# Altium schematic symbol library MOSFETS.SchLib: 15 symbols
Pins are listed as number, name and electrical type; pins without a type are passive.

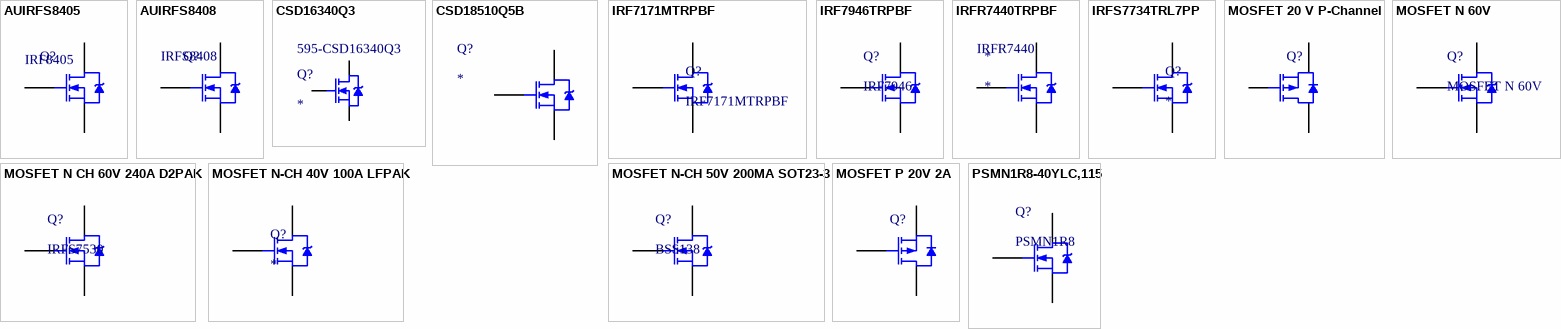
[diagram p0: symbols AUIRFS8405 to PSMN1R8-40YLC,115]

## AUIRFS8405
designator Q?  value IRF8405  (hidden comment: AUIRFS8405)
MOSFET Auto 40V N-Ch FET 1.9mOhm 193A; Manufacturer: International Rectifier; Configuration: Single; Forward Transconductance - Min: 100 S; Transistor Polarity: N-Channel; Channel Mode: Enhancement; Fall Time: 77 ns; Id - Continuous Drain Current: 120 A; Pd - Power Dissipation: 163 W; Qg - Gate Charge: 107 nC; Rds On - Drain-Source Resistance: 2.3 mOhms; Rise Time: 128 ns; Typical Turn-Off Delay Time: 55 ns; Vgs - Gate-Source Breakdown Voltage: 20 V; Vgs th - Gate-Source Threshold Voltage: 2.2 V to 3.9 V; Supplier 1: Mouser; Manufacturer Part Number: AUIRFS8405; RoHS: RoHS Compliant; Category: MOSFET; Stock 1: 148; Pricing 1: 1=3.55, 10=1.89, 100=1.66, 500=1.56, 1000=1.50, 2500=1.44, 5000=1.37, 10000=1.32 (AUD); Package / Case: D-PAK-3; Packaging: Tube; Brand: International Rectifier; Mounting Style: SMD/SMT; Maximum Operating Temperature: + 175 C; Minimum Operating Temperature: - 55 C; Standard Pack Qty: 50; Tradename: CoolIRFet; Vds - Drain-Source Breakdown Voltage: 40 V; RoHS - Mouser: Y; Minimum Order Quantity: 1; Reeling: False; ComponentLink1URL: http://www.mouser.com/ds/2/200/auirfs8405-246739.pdf; ComponentLink1Description: http://www.mouser.com/ds/2/200/auirfs8405-246739.pdf; Supplier Part Number 1: 942-AUIRFS8405
footprint D-PAK (D-PAK/TO-252-AA; 3 Leads (1 Cropped); Body 10.3 (inc. leads) x 6.7 mm (LxW max))
pins: 1 G, 2 D, 3 S

## AUIRFS8408
designator Q?  value IRFS8408  (hidden comment: AUIRFS8408)
MOSFET Auto 40V N-Ch FET 1.3mOhm 195A; Manufacturer: International Rectifier; Configuration: Single; Forward Transconductance - Min: 211 S; Transistor Polarity: N-Channel; Channel Mode: Enhancement; Fall Time: 119 ns; Pd - Power Dissipation: 294 W; Qg - Gate Charge: 210 nC; Rds On - Drain-Source Resistance: 1.6 mOhms; Rise Time: 202 ns; Typical Turn-Off Delay Time: 108 ns; Vgs - Gate-Source Breakdown Voltage: 20 V; Vgs th - Gate-Source Threshold Voltage: 2.2 V to 3.9 V; Supplier 1: Mouser; Manufacturer Part Number: AUIRFS8408; RoHS: RoHS Compliant; Category: MOSFET; Stock 1: 495; Pricing 1: 1=4.92, 10=2.82, 100=2.67, 250=2.49, 500=2.39, 1000=2.30, 2500=2.18, 5000=2.11 (AUD); Package / Case: DPAK-3; Packaging: Tube; Brand: International Rectifier; Mounting Style: SMD/SMT; Id - Continuous Drain Current: 195 A; Maximum Operating Temperature: + 175 C; Minimum Operating Temperature: - 55 C; Standard Pack Qty: 50; Tradename: CoolIRFet; Vds - Drain-Source Breakdown Voltage: 40 V; RoHS - Mouser: Y; Minimum Order Quantity: 1; Reeling: False; ComponentLink1URL: http://www.mouser.com/ds/2/200/auirfs8408-246755.pdf; ComponentLink1Description: http://www.mouser.com/ds/2/200/auirfs8408-246755.pdf; Supplier Part Number 1: 942-AUIRFS8408
footprint D-PAK (D-PAK/TO-252-AA; 3 Leads (1 Cropped); Body 10.3 (inc. leads) x 6.7 mm (LxW max))
footprint D2PAK-7 (TO263-7) N
pins: 1 G, 2 D, 3 S

## CSD16340Q3
designator Q?  Supplier Part Number 1: 595-CSD16340Q3
25-V N-Channel NexFET™ Power MOSFET; Manufacturer_Name: Texas Instruments; Manufacturer_Part_Number: CSD16340Q3; Datasheet Link: http://www.ti.com/lit/gpn/csd16340q3; Height: 1.1mm; ComponentLink1Description: Datasheet; ComponentLink1URL: http://www.ti.com/lit/ds/symlink/csd16340q3.pdf; ComponentLink2Description: Mouser; ComponentLink2URL: https://br.mouser.com/ProductDetail/Texas-Instruments/CSD16340Q3?qs=sGAEpiMZZMshyDBzk1%2FWi5S32xL8%2F9r%2FH2wDyXav3q4%3D; Supplier 1: Mouser
footprint VSON-CLIP-8
pins: 1 S, 2 G, 3 D

## CSD18510Q5B
designator Q?
MOSFET N-CH 40V 53A 8SON; Manufacturer: Texas Instruments; Manufacturer Part Number: CSD18510Q5B; Manufacturer Product Page: CSD18510Q5B Specifications; PCN Design/Specification: Qualification Revision A 01/Jul/2014; PCN Assembly/Origin: Qualification Wire Bond 27/May/2014 / Assembly/Test Site Transfer 19/Dec/2014; FET Type: MOSFET N-Channel, Metal Oxide; FET Feature: Logic Level Gate; Current - Continuous Drain (Id) @ 25°C: 100A (Ta); Rds On (Max) @ Id, Vgs: 0.96 mOhm @ 50A, 10V; Vgs(th) (Max) @ Id: 1.9V @ 250µA; Gate Charge (Qg) @ Vgs: 75nC @ 4.5V; Input Capacitance (Ciss) @ Vds: 11400pF @ 15V; Power - Max: 3.2W; Online Catalog: N-Channel Logic Level Gate FETs; Supplier 1: Mouser; Stock 1: 0; Pricing 1: 10000=0.929 (USD); Standard Package: 2,500; Category: Discrete Semiconductor Products; Family: FETs - Single; Series: NexFET™; Packaging: Tape & Reel (TR); Drain to Source Voltage (Vdss): 40V; Mounting Type: Surface Mount; Package / Case: 8-TDFN Exposed Pad; Supplier Device Package: 8-SON (5x6); ComponentLink1URL: http://www.ti.com/lit/ds/symlink/csd18510q5b.pdf; ComponentLink1Description: http://www.ti.com/lit/ds/symlink/csd18510q5b.pdf; Supplier Part Number 1: 595-CSD18510Q5B
footprint SON 5X6
pins: 1 G, 2 D, 3 S

## IRF7171MTRPBF
designator Q?
MOSFET N-CH 100V 15A; Manufacturer: Infineon Technologies; FET Type: MOSFET N-Channel, Metal Oxide; FET Feature: Standard; Current - Continuous Drain (Id) @ 25°C: 15A (Ta), 93A (Tc); Rds On (Max) @ Id, Vgs: 6.5 mOhm @ 56A, 10V; Vgs(th) (Max) @ Id: 3.6V @ 150µA; Gate Charge (Qg) @ Vgs: 54nC @ 10V; Input Capacitance (Ciss) @ Vds: 2160pF @ 50V; Power - Max: 2.8W; Supplier 1: Digi-Key; Manufacturer Part Number: IRF7171MTRPBF; RoHS: RoHS Compliant; Category: Discrete Semiconductor Products; Stock 1: 0; Pricing 1: 4800=1.3824 (USD); Packaging: Tape & Reel (TR); Part Status: Last Time Buy; Drain to Source Voltage (Vdss): 100V; Operating Temperature: -55°C ~ 150°C (TJ); Mounting Type: Surface Mount; Package / Case: DirectFET™ Isometric MN; Supplier Device Package: DIRECTFET™ MN; ComponentLink1URL: http://www.irf.com/product-info/datasheets/data/irf7171mpbf.pdf; ComponentLink1Description: http://www.irf.com/product-info/datasheets/data/irf7171mpbf.pdf; Supplier Part Number 1: IRF7171MTRPBFTR-ND
footprint DirectFET_MN
pins: 1 G, 2 D, 3 S

## IRF7946TRPBF
designator Q?, comment IRF7946
MOSFET N CH 40V 90A DIRECTFET MX; Manufacturer: Infineon Technologies; Manufacturer Part Number: IRF7946TRPBF; FET Type: MOSFET N-Channel, Metal Oxide; FET Feature: Standard; Current - Continuous Drain (Id) @ 25°C: 90A (Tc); Rds On (Max) @ Id, Vgs: 1.4 mOhm @ 90A, 10V; Vgs(th) (Max) @ Id: 3.9V @ 150µA; Gate Charge (Qg) @ Vgs: 212nC @ 10V; Input Capacitance (Ciss) @ Vds: 6852pF @ 25V; Power - Max: 96W; Supplier 1: Digi-Key; RoHS: RoHS Compliant; Category: Discrete Semiconductor Products; Stock 1: 4630; Pricing 1: 1=2.93, 10=2.629, 100=2.1127, 500=1.7358, 1000=1.43824 (USD); Packaging: Cut Tape (CT); Drain to Source Voltage (Vdss): 40V; Operating Temperature: -55°C ~ 150°C (TJ); Mounting Type: Surface Mount; Package / Case: DirectFET™ Isometric MX; Supplier Device Package: DIRECTFET™ MX; ComponentLink1URL: http://www.irf.com/product-info/datasheets/data/irf7946pbf.pdf; ComponentLink1Description: http://www.irf.com/product-info/datasheets/data/irf7946pbf.pdf; Supplier Part Number 1: IRF7946TRPBFCT-ND
footprint DirectFET_MX
pins: 1 G, 2 D, 3 S

## IRFR7440TRPBF
designator *  Supplier Part Number 1: IRFR7440
INFINEON - IRFR7440TRPBF - MOSFET Transistor, N Channel, 90 A, 40 V, 0.0019 ohm, 10 V, 3 V; Supplier 1: Newark; Manufacturer: INFINEON; Manufacturer Part Number: IRFR7440TRPBF; RoHS: YES; Stock 1: 1875; Pricing 1: 1=1,62, 100=1,31, 250=1,18, 500=1,09, 1000=1,01 (USD); ComponentLink1URL: http://www.irf.com/product-info/datasheets/data/irfr7440pbf.pdf; ComponentLink1Description: http://www.irf.com/product-info/datasheets/data/irfr7440pbf.pdf
footprint D-PAK (D-PAK/TO-252-AA; 3 Leads (1 Cropped); Body 10.3 (inc. leads) x 6.7 mm (LxW max))
pins: 1 G, 2 D, 3 S

## IRFS7734TRL7PP
designator Q?
MOS 197A 75V D2PAK; Manufacturer: Infineon Technologies; Manufacturer Part Number: IRFS7734TRL7PP; FET Type: MOSFET N-Channel, Metal Oxide; FET Feature: Standard; Current - Continuous Drain (Id) @ 25°C: 197A (Tc); Rds On (Max) @ Id, Vgs: 3.05 mOhm @ 100A, 10V; Vgs(th) (Max) @ Id: 3.7V @ 150µA; Gate Charge (Qg) @ Vgs: 270nC @ 10V; Input Capacitance (Ciss) @ Vds: 10130pF @ 25V; Power - Max: 294W; Supplier 1: Digi-Key; RoHS: RoHS Compliant; Category: Discrete Semiconductor Products; Stock 1: 0; Pricing 1: 800=1.77953, 1600=1.5008, 2400=1.42576, 5600=1.37216 (USD); Packaging: Tape & Reel (TR); Part Status: Active; Drain to Source Voltage (Vdss): 75V; Operating Temperature: -55°C ~ 175°C (TJ); Mounting Type: Surface Mount; Package / Case: TO-263-7, D²Pak (6 Leads + Tab); Supplier Device Package: D2PAK (7-Lead); ComponentLink1URL: http://www.infineon.com/dgdl/irfs7734-7ppbf.pdf?fileId=5546d462533600a40153563ac71b21e6; ComponentLink1Description: http://www.infineon.com/dgdl/irfs7734-7ppbf.pdf?fileId=5546d462533600a40153563ac71b21e6; Supplier Part Number 1: IRFS7734TRL7PPTR-ND
footprint D2PAK-7 (TO263-7) N
pins: 1 G, 2 D, 3 S

## MOSFET 20 V P-Channel
designator Q?, comment CSD25402Q3A  (value not drawn)
20 V P-Channel NexFET™ Power MOSFET; Manufacturer: Fairchild/ON Semiconductor; Manufacturer Part Number: FDN340P; Drain to Source Voltage (Vdss): 20V; Current - Continuous Drain (Id) @ 25°C: 2A (Ta); Drive Voltage (Max Rds On,  Min Rds On): 2.5V, 4.5V; Vgs(th) (Max) @ Id: 1.5V @ 250µA; Gate Charge (Qg) (Max) @ Vgs: 10nC @ 4.5V; Input Capacitance (Ciss) (Max) @ Vds: 779pF @ 10V; Vgs (Max): ±8V; Power Dissipation (Max): 500mW (Ta); Rds On (Max) @ Id, Vgs: 70 mOhm @ 2A, 4.5V; RoHS: RoHS Compliant; Category: Discrete Semiconductor Products; Packaging: Cut Tape (CT); Part Status: Active; FET Type: P-Channel; Technology: MOSFET (Metal Oxide); FET Feature: -; Operating Temperature: -55°C ~ 150°C (TJ); Mounting Type: Surface Mount; Supplier Device Package: SuperSOT-3; Package / Case: TO-236-3, SC-59, SOT-23-3; ComponentLink1Description: http://www.ti.com/lit/ds/symlink/csd25402q3a.pdf; ComponentLink1URL: http://www.ti.com/lit/ds/symlink/csd25402q3a.pdf; ComponentLink2Description: https://br.mouser.com/ProductDetail/Texas-Instruments/CSD25402Q3A?qs=%2Fha2pyFaduhTMYfgihb5Jgf6fZI6wbYK0eSaV7mcgusb1%2F%2F%252BWLivFg%3D%3D; ComponentLink2URL: https://br.mouser.com/ProductDetail/Texas-Instruments/CSD25402Q3A?qs=%2Fha2pyFaduhTMYfgihb5Jgf6fZI6wbYK0eSaV7mcgusb1%2F%2F%252BWLivFg%3D%3D; Supplier 1: Mouser; Supplier Part Number 1: 595-CSD25402Q3A
footprint SON65P300X315X90-9N
pins: 1 D, 2 G, 3 S

## MOSFET N 60V
designator Q?
MOSFET N-CH 60V 10A TO-220AB; Manufacturer: Vishay Siliconix; Manufacturer Part Number: IRLZ14PBF; FET Type: N-Channel; Current - Continuous Drain (Id) @ 25°C: 10A (Tc); Drive Voltage (Max Rds On,  Min Rds On): 4V, 5V; Vgs(th) (Max) @ Id: 2V @ 250µA; Gate Charge (Qg) (Max) @ Vgs: 8.4nC @ 5V; Input Capacitance (Ciss) (Max) @ Vds: 400pF @ 25V; Vgs (Max): ±10V; Power Dissipation (Max): 43W (Tc); Rds On (Max) @ Id, Vgs: 200 mOhm @ 6A, 5V; Supplier 1: Digi-Key; RoHS: RoHS Compliant; Category: Discrete Semiconductor Products; Stock 1: 482; Pricing 1: 1=0.89, 10=0.787, 25=0.7388, 100=0.603, 250=0.56012, 500=0.4767, 1000=0.38136, 2500=0.34561, 5000=0.32177 (USD); Packaging: Tube; Part Status: Active; Technology: MOSFET (Metal Oxide); Drain to Source Voltage (Vdss): 60V; FET Feature: -; Operating Temperature: -55°C ~ 175°C (TJ); Mounting Type: Through Hole; Supplier Device Package: TO-220AB; Package / Case: TO-220-3; ComponentLink1URL: http://www.vishay.com/docs/91325/sihlz14.pdf; ComponentLink1Description: http://www.vishay.com/docs/91325/sihlz14.pdf; Supplier Part Number 1: IRLZ14PBF-ND
footprint TO220AB
pins: 1 G, 2 D, 3 S

## MOSFET N CH 60V 240A D2PAK
designator Q?, comment IRFS7530
MOSFET N CH 60V 240A D2PAK; Manufacturer: Infineon Technologies; Manufacturer Part Number: IRFS7530TRL7PP; FET Type: MOSFET N-Channel, Metal Oxide; FET Feature: Standard; Current - Continuous Drain (Id) @ 25°C: 240A (Tc); Rds On (Max) @ Id, Vgs: 1.4 mOhm @ 100A, 10V; Vgs(th) (Max) @ Id: 3.7V @ 250µA; Gate Charge (Qg) @ Vgs: 354nC @ 10V; Input Capacitance (Ciss) @ Vds: 12960pF @ 25V; Power - Max: 375W; Supplier 1: Digi-Key; RoHS: RoHS Compliant; Category: Discrete Semiconductor Products; Stock 1: 766; Pricing 1: 1=3.76, 10=3.38, 100=2.7697 (USD); Packaging: Cut Tape (CT); Part Status: Active; Drain to Source Voltage (Vdss): 60V; Operating Temperature: -55°C ~ 175°C (TJ); Mounting Type: Surface Mount; Package / Case: TO-263-7, D²Pak (6 Leads + Tab); Supplier Device Package: D2PAK (7-Lead); ComponentLink1URL: http://www.infineon.com/dgdl/irfs7530-7ppbf.pdf?fileId=5546d462533600a40153563a9d1e21d8; ComponentLink1Description: http://www.infineon.com/dgdl/irfs7530-7ppbf.pdf?fileId=5546d462533600a40153563a9d1e21d8; Supplier Part Number 1: IRFS7530TRL7PPCT-ND
footprint TO263-7 (D2PAK-7)
pins: 1 G, 2 D, 3 S

## MOSFET N-CH 40V 100A LFPAK
designator Q?
Manufacturer: NXP Semiconductors; Manufacturer Part Number: PSMN1R8-40YLC,115; FET Type: MOSFET N-Channel, Metal Oxide; FET Feature: Logic Level Gate, 4.5V Drive; Drain to Source Voltage (Vdss): 40V; Current - Continuous Drain (Id) @ 25°C: 100A (Tc); Rds On (Max) @ Id, Vgs: 1.8 mOhm @ 25A, 10V; Vgs(th) (Max) @ Id: 1.95V @ 1mA; Gate Charge (Qg) @ Vgs: 96nC @ 10V; Input Capacitance (Ciss) @ Vds: 6680pF @ 20V; Power - Max: 272W; Supplier 1: Digi-Key; RoHS: RoHS Compliant; Category: Discrete Semiconductor Products; Stock 1: 1500; Pricing 1: 1500=0.48, 3000=0.448, 7500=0.4256, 10500=0.4096, 37500=0.3968, 75000=0.384 (USD); Packaging: Tape & Reel (TR); Part Status: Active; Operating Temperature: -55°C ~ 175°C (TJ); Mounting Type: Surface Mount; Package / Case: SC-100, SOT-669, 4-LFPAK; Supplier Device Package: LFPAK, Power-SO8; ComponentLink1URL: http://www.nxp.com/documents/data_sheet/PSMN1R8-40YLC.pdf; ComponentLink1Description: http://www.nxp.com/documents/data_sheet/PSMN1R8-40YLC.pdf; Supplier Part Number 1: 568-10156-2-ND
footprint SO8-4
pins: 1 G, 2 D "mb", 3 S

## MOSFET N-CH 50V 200MA SOT23-3
designator Q?, comment BSS138
MOSFET N-CH 50V 200MA SOT23-3; Manufacturer: Diodes; Manufacturer Part Number: BSS138-7-F; Catalog Drawings: SOT-23 Package Top SOT-23 Package Side 1 SOT-23 Package Side 2; PCN Design/Specification: Green Encapsulate 15/May/2008 Bond Wire 16/Sept/2008 Bond Wire 11/Nov/2011; PCN Assembly/Origin: Plating Site Addition 29/Jul/2015; EDA / CAD Models: Download from Accelerated Designs; FET Type: MOSFET N-Channel, Metal Oxide; FET Feature: Standard; Current - Continuous Drain (Id) @ 25°C: 200mA (Ta); Rds On (Max) @ Id, Vgs: 3.5 Ohm @ 220mA, 10V; Vgs(th) (Max) @ Id: 1.5V @ 250µA; Input Capacitance (Ciss) @ Vds: 50pF @ 10V; Power - Max: 300mW; Online Catalog: N-Channel Standard FETs; Other Names: BSS138-FDITR  BSS1387F; Supplier 1: Digikey; Stock 1: 105603; Pricing 1: 1=0.34, 10=0.277, 100=0.1468, 500=0.0966, 1000=0.0657 (USD); RoHS Information: RoHS Cert of Compliance; Standard Package: 3,000; Category: Discrete Semiconductor Products; Family: Transistors - FETs, MOSFETs - Single; Series: -; Packaging: Tape & Reel (TR); Drain to Source Voltage (Vdss): 50V; Gate Charge (Qg) @ Vgs: -; Operating Temperature: -55°C ~ 150°C (TJ); Mounting Type: Surface Mount; Package / Case: TO-236-3, SC-59, SOT-23-3; Supplier Device Package: SOT-23-3; ComponentLink1URL: https://datasheet.ciiva.com/8115/ds30144-8115344.pdf; ComponentLink1Description: https://datasheet.ciiva.com/8115/ds30144-8115344.pdf; ComponentLink2URL: https://datasheet.ciiva.com/1190/ds30144-1190129.pdf; ComponentLink2Description: https://datasheet.ciiva.com/1190/ds30144-1190129.pdf; ComponentLink3URL: https://datasheet.ciiva.com/25900/ds30144-25900327.pdf; ComponentLink3Description: https://datasheet.ciiva.com/25900/ds30144-25900327.pdf; ComponentLink4URL: https://datasheet.ciiva.com/8115/ds30144-8115289.pdf; ComponentLink4Description: https://datasheet.ciiva.com/8115/ds30144-8115289.pdf; ComponentLink5URL: https://datasheet.ciiva.com/934/ds30144-934523.pdf; ComponentLink5Description: https://datasheet.ciiva.com/934/ds30144-934523.pdf; ComponentLink6URL: https://datasheet.ciiva.com/934/ds30144-934524.pdf; ComponentLink6Description: https://datasheet.ciiva.com/934/ds30144-934524.pdf; ComponentLink7URL: https://datasheet.ciiva.com/934/ds30144-934525.pdf; ComponentLink7Description: https://datasheet.ciiva.com/934/ds30144-934525.pdf; ComponentLink8URL: https://datasheet.ciiva.com/16388/ds30144-16388895.pdf; ComponentLink8Description: https://datasheet.ciiva.com/16388/ds30144-16388895.pdf; Supplier Part Number 1: BSS138-FDICT-ND
footprint SOT23-3 M (SOT23, 3-Leads, Body 2,90x2,30mm, Pitch 0,95mm, IPC Low Density)
pins: 1 G, 2 S, 3 D

## MOSFET P 20V 2A
designator Q?, comment FDN340P  (value not drawn)
MOSFET P-CH 20V 2A SSOT3; Manufacturer: Fairchild/ON Semiconductor; FET Type: P-Channel; Current - Continuous Drain (Id) @ 25°C: 2A (Ta); Drive Voltage (Max Rds On,  Min Rds On): 2.5V, 4.5V; Vgs(th) (Max) @ Id: 1.5V @ 250µA; Gate Charge (Qg) (Max) @ Vgs: 10nC @ 4.5V; Input Capacitance (Ciss) (Max) @ Vds: 779pF @ 10V; Vgs (Max): ±8V; Power Dissipation (Max): 500mW (Ta); Rds On (Max) @ Id, Vgs: 70 mOhm @ 2A, 4.5V; Supplier 1: Digi-Key; Manufacturer Part Number: FDN340P; RoHS: RoHS Compliant; Category: Discrete Semiconductor Products; Stock 1: 195; Pricing 1: 1=0.39, 10=0.315, 100=0.2146, 500=0.16092, 1000=0.12069 (USD); Packaging: Cut Tape (CT); Part Status: Active; Technology: MOSFET (Metal Oxide); Drain to Source Voltage (Vdss): 20V; FET Feature: -; Operating Temperature: -55°C ~ 150°C (TJ); Mounting Type: Surface Mount; Supplier Device Package: SuperSOT-3; Package / Case: TO-236-3, SC-59, SOT-23-3; ComponentLink1URL: https://www.fairchildsemi.com/datasheets/FD/FDN340P.pdf; ComponentLink1Description: https://www.fairchildsemi.com/datasheets/FD/FDN340P.pdf; Supplier Part Number 1: FDN340PCT-ND
footprint SOT23-3 M (SOT23, 3-Leads, Body 2,90x2,30mm, Pitch 0,95mm, IPC Low Density)
pins: 1 G, 2 D "mb", 3 S

## PSMN1R8-40YLC,115
designator Q?, comment PSMN1R8
MOSFET N-CH 40V 100A LFPAK; Manufacturer: NXP Semiconductors; Manufacturer Part Number: PSMN1R8-40YLC,115; FET Type: MOSFET N-Channel, Metal Oxide; FET Feature: Logic Level Gate, 4.5V Drive; Current - Continuous Drain (Id) @ 25°C: 100A (Tc); Rds On (Max) @ Id, Vgs: 1.8 mOhm @ 25A, 10V; Vgs(th) (Max) @ Id: 1.95V @ 1mA; Gate Charge (Qg) @ Vgs: 96nC @ 10V; Input Capacitance (Ciss) @ Vds: 6680pF @ 20V; Power - Max: 272W; Supplier 1: Digi-Key; RoHS: RoHS Compliant; Category: Discrete Semiconductor Products; Stock 1: 4026; Pricing 1: 1=1.09, 10=0.973, 100=0.7584, 500=0.6272 (USD); Packaging: Cut Tape (CT); Part Status: Active; Drain to Source Voltage (Vdss): 40V; Operating Temperature: -55°C ~ 175°C (TJ); Mounting Type: Surface Mount; Package / Case: SC-100, SOT-669, 4-LFPAK; Supplier Device Package: LFPAK, Power-SO8; ComponentLink1URL: http://www.nxp.com/documents/data_sheet/PSMN1R8-40YLC.pdf; ComponentLink1Description: http://www.nxp.com/documents/data_sheet/PSMN1R8-40YLC.pdf; Supplier Part Number 1: 568-10156-1-ND
footprint SO8-4
pins: 1 G, 2 D, 3 S